# Altium footprint library g-HEADER_4x2I.1P_TH.PcbLib: 1 footprints
Each footprint in its own frame and in the unit in brackets; x right, y up, seen from the top. Pads: shape width x height; smd on the part's side, far side on the other; paste and mask are expansions set on the pad; w line width, h text height; cw(c..) or ccw(c..) is an arc to the next point about the centre after c.
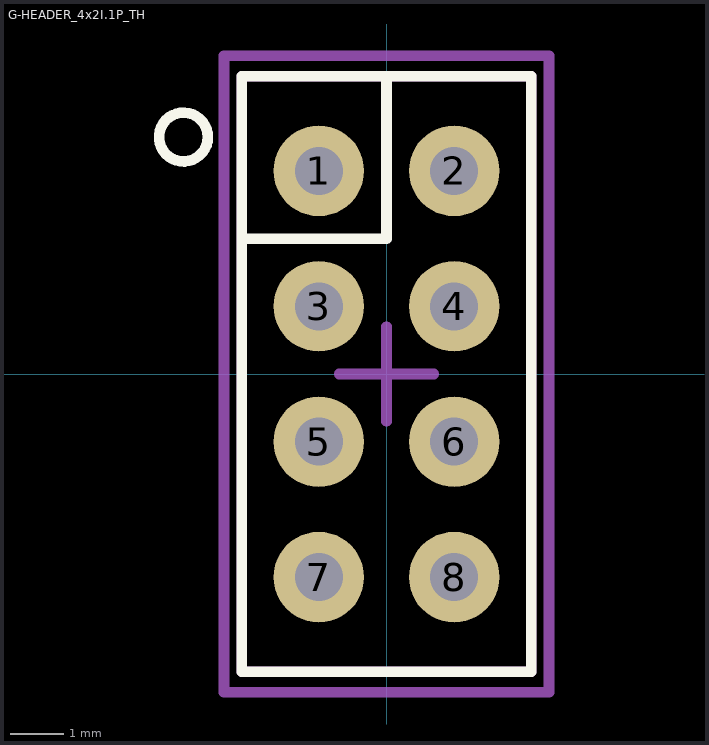
[diagram p0: the footprint, top view; thin cyan lines are the x and y axes]

## G-HEADER_4x2I.1P_TH [mm] "Header 4x2, 100 mil Pitch, Non polarized"
height 8.5
pads (8):
  round 1.7 hole 0.9: 1(-1.27,3.81) 2(1.27,3.81) 3(-1.27,1.27) 4(1.27,1.27) 5(-1.27,-1.27) 6(1.27,-1.27) 7(-1.27,-3.81) 8(1.27,-3.81)
Top Overlay:
  circle w0.2: c-3.81,4.445 r0.458
  lines w0.2: -2.718,2.54 0,2.54 0,5.588 ; -2.718,-5.588 -2.718,5.588 2.718,5.588 2.718,-5.588 -2.718,-5.588
Mechanical 13:
  lines w0.2: -2.718,-5.588 2.718,-5.588 2.718,5.588 -2.718,5.588 -2.718,-5.588
Mechanical 15:
  lines w0.2: -0.889,0 0.889,0 ; 0,-0.889 0,0.889 ; -3.048,-5.969 3.048,-5.969 3.048,5.969 -3.048,5.969 -3.048,-5.969
3D body: height 8.5, standoff 0, extent -2.717,-5.587 2.717,5.587